# EAGLE library part ACPL-C87A-000E (library ck_custom)
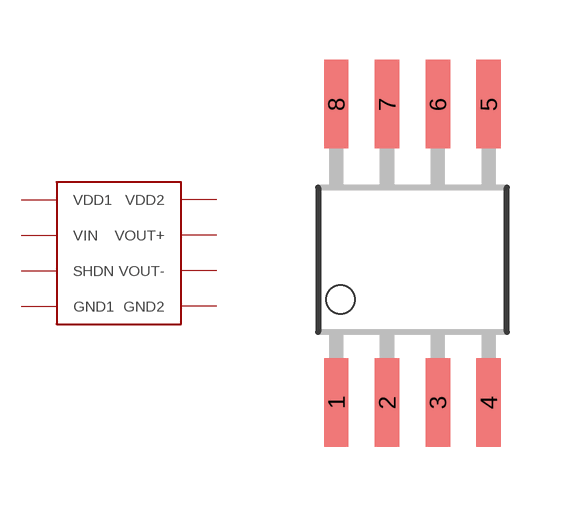
[diagram p7: symbol with the pads of SO8-WIDE; footprint SO8-WIDE]

Designator prefix -

## ACPL-C87A-000E  [SO8-WIDE]
1  VDD1
2  VIN
3  SHDN
4  GND1
5  GND2
6  VOUT-
7  VOUT+
8  VDD2

## Footprint SO8-WIDE (pad centres in mm)
smd 0.61 x 2.21: 1 0.635,-1.029; 2 1.905,-1.029; 3 3.175,-1.029; 4 4.445,-1.029; 5 4.445,6.426; 6 3.175,6.426; 7 1.905,6.426; 8 0.635,6.426